# EAGLE library part CSK-H1 (library APU_PayloadBoard_Library)
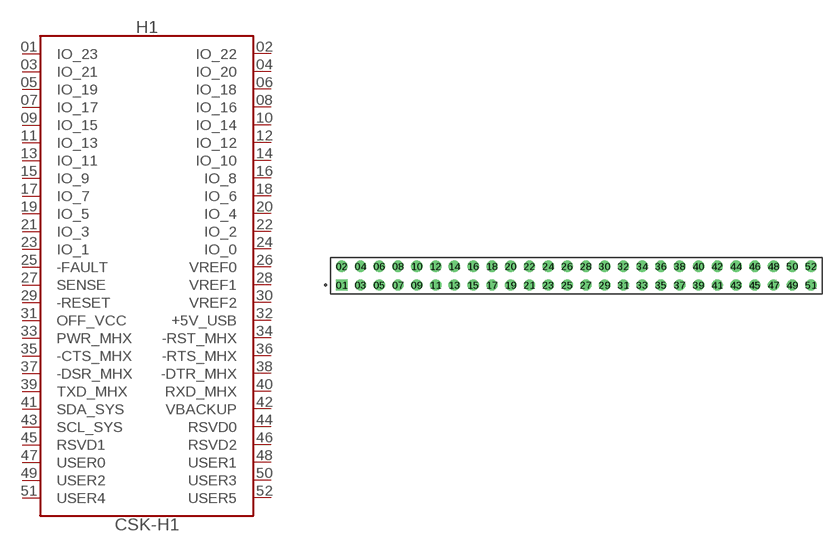
[diagram p5: symbol with the pads of SAMTEC_ESQ-126-37-G-D--NUMBERED-FOR-CUBESAT-BUS; footprint SAMTEC_ESQ-126-37-G-D--NUMBERED-FOR-CUBESAT-BUS]

Designator prefix H1

## CSK-H1  [SAMTEC_ESQ-126-37-G-D--NUMBERED-FOR-CUBESAT-BUS]
01  IO_23
02  IO_22
03  IO_21
04  IO_20
05  IO_19
06  IO_18
07  IO_17
08  IO_16
09  IO_15
10  IO_14
11  IO_13
12  IO_12
13  IO_11
14  IO_10
15  IO_9
16  IO_8
17  IO_7
18  IO_6
19  IO_5
20  IO_4
21  IO_3
22  IO_2
23  IO_1
24  IO_0
25  -FAULT
26  VREF0
27  SENSE
28  VREF1
29  -RESET
30  VREF2
31  OFF_VCC
32  +5V_USB
33  PWR_MHX
34  -RST_MHX
35  -CTS_MHX
36  -RTS_MHX
37  -DSR_MHX
38  -DTR_MHX
39  TXD_MHX
40  RXD_MHX
41  SDA_SYS
42  VBACKUP
43  SCL_SYS
44  RSVD0
45  RSVD1
46  RSVD2
47  USER0
48  USER1
49  USER2
50  USER3
51  USER4
52  USER5

## Footprint SAMTEC_ESQ-126-37-G-D--NUMBERED-FOR-CUBESAT-BUS (pad centres in mm)
drill 1.02 pad 1.37 square: 01 0,0
drill 1.02 pad 1.37: 02 0,2.54; 03 2.54,0; 04 2.54,2.54; 05 5.08,0; 06 5.08,2.54; 07 7.62,0; 08 7.62,2.54; 09 10.16,0; 10 10.16,2.54; 11 12.7,0; 12 12.7,2.54; 13 15.24,0; 14 15.24,2.54; 15 17.78,0; 16 17.78,2.54; 17 20.32,0; 18 20.32,2.54; 19 22.86,0; 20 22.86,2.54; 21 25.4,0; 22 25.4,2.54; 23 27.94,0; 24 27.94,2.54; 25 30.48,0; 26 30.48,2.54; 27 33.02,0; 28 33.02,2.54; 29 35.56,0; 30 35.56,2.54; 31 38.1,0; 32 38.1,2.54; 33 40.64,0; 34 40.64,2.54; 35 43.18,0; 36 43.18,2.54; 37 45.72,0; 38 45.72,2.54; 39 48.26,0; 40 48.26,2.54; 41 50.8,0; 42 50.8,2.54; 43 53.34,0; 44 53.34,2.54; 45 55.88,0; 46 55.88,2.54; 47 58.42,0; 48 58.42,2.54; 49 60.96,0; 50 60.96,2.54; 51 63.5,0; 52 63.5,2.54